# Altium footprint library RTLS.PcbLib: 1 footprints
Each footprint in its own frame and in the unit in brackets; x right, y up, seen from the top. Pads: shape width x height; smd on the part's side, far side on the other; paste and mask are expansions set on the pad; w line width, h text height; cw(c..) or ccw(c..) is an arc to the next point about the centre after c.
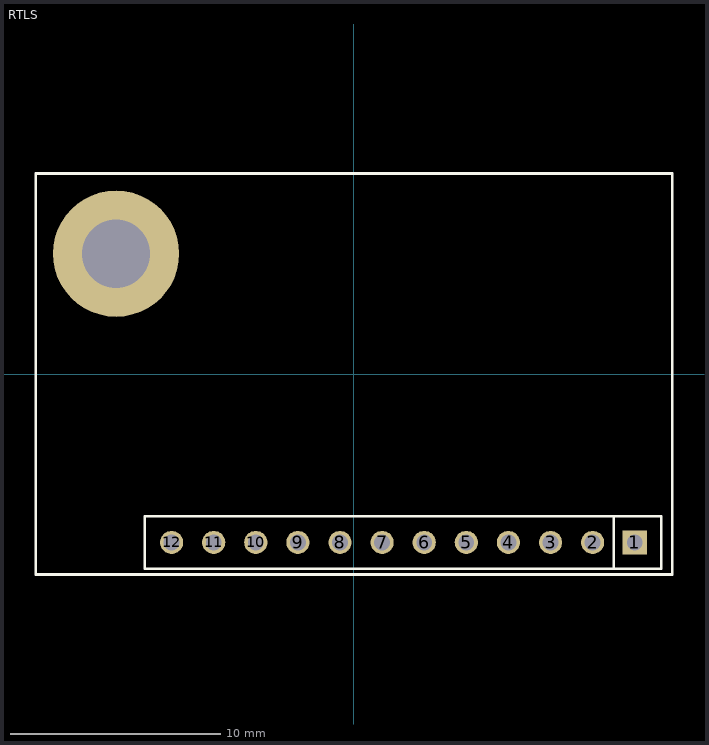
[diagram p0: the footprint, top view; thin cyan lines are the x and y axes]

## RTLS [mm]
pads (13):
  rect 1.15x1.15 hole 0.75: 1(13.335,-8.001)
  round 1.1 hole 0.75: 2(11.335,-8.001) 3(9.335,-8.001) 4(7.335,-8.001) 5(5.335,-8.001) 6(3.335,-8.001) 7(1.335,-8.001) 8(-0.665,-8.001) 9(-2.665,-8.001) 10(-4.665,-8.001) 11(-6.665,-8.001) 12(-8.665,-8.001)
  round 6 hole 3.25: ""(-11.303,5.715)
Top Overlay:
  lines w0.127: 12.335,-9.246 12.335,-6.756 ; -15.113,-9.525 -15.113,9.525 15.113,9.525 15.113,-9.525 -15.113,-9.525 ; -9.931,-9.246 14.601,-9.246 14.601,-6.756 -9.931,-6.756 -9.931,-9.246
3D body: height 4.02, standoff -2.68, extent -9.915,-9.254 14.585,-6.754
3D body: height 16.77, standoff 0.1, extent -15.246,-9.703 15.234,9.601